# EAGLE library part LM358BIDGKR (library ds_ic_opa)
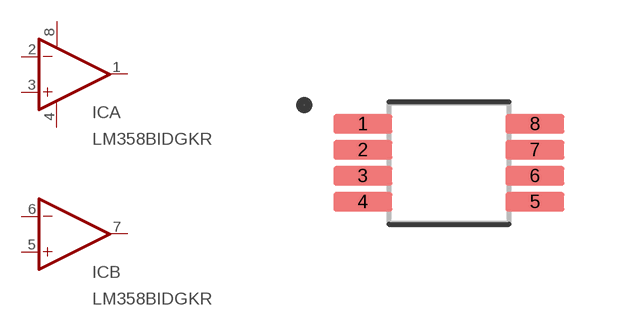
[diagram p0: symbol with the pads of VSSOP8; footprint VSSOP8]

Designator prefix IC; gates A=OPA_PWR B=OPA

## LM358BIDGKR (DATASHEET: https://www.ti.com/lit/ds/symlink/lm358.pdf?HQS=dis-dk-null-digikeymode-dsf-pf-null-wwe&ts=1764304665624&ref_url=https%253A%252F%252Fwww.ti.com%252Fgeneral%252Fdocs%252Fsuppproductinfo.tsp%253FdistId%253D10%2526gotoUrl%253Dhttps%253A%252F%252Fwww.ti.com%252Flit%252Fgpn%252Flm358; DESCRIPTION: -40℃~+85℃ 1.2MHz 100dB 10pA/℃ 12uV/℃ 2 20mA 300uA 35nA 36V 3V~36V 3mV 40nV/√Hz@1kHz 4nA 500V/ms VSSOP-8 Operational Amplifier ROHS; LCSC_PART: C2846792; MANUFACTURER: Texas Instruments; MPN: LM358BIDGKR; ROHS: YES; VALUE: LM358BIDGKR)  [VSSOP8]
1  A:OUT  out
2  A:-IN  in
3  A:+IN  in
4  A:V-  pwr
5  B:+IN  in
6  B:-IN  in
7  B:OUT  out
8  A:V+  pwr

## Footprint VSSOP8 (pad centres in mm)
smd 1.47 x 0.48: 1 -2.15,0.975; 2 -2.15,0.325; 3 -2.15,-0.325; 4 -2.15,-0.975; 5 2.15,-0.975; 6 2.15,-0.325; 7 2.15,0.325; 8 2.15,0.975